# Altium integrated library CRCW0402453KFKED.IntLib: 1 symbol
Pins are listed as number, name and electrical type; pins without a type are passive.

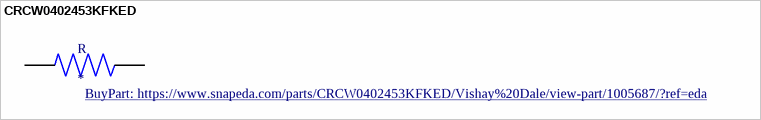
[diagram p0: symbol CRCW0402453KFKED]

## CRCW0402453KFKED
designator R
453 kOhms Â±1% 0.063W, 1/16W Chip Resistor 0402 (1005 Metric) Automotive AEC-Q200 Thick Film; MP: CRCW0402453KFKED; MF: Vishay Dale; Arrow_Electronics-Purchase-URL: https://snapeda.com/shop?store=Arrow+Electronics&id=1005687; Digi-Key_Part_Number: 541-453KLCT-ND; DigiKey-Purchase-URL: https://snapeda.com/shop?store=DigiKey&id=1005687; Package: 1005 Panasonic Electronic Components; SnapEDA_Link: https://www.snapeda.com/parts/CRCW0402453KFKED/Vishay%20Dale/view-part/1005687/?ref=snap; Value: *; Mouser-Purchase-URL: https://snapeda.com/shop?store=Mouser&id=1005687; BuyPart: https://www.snapeda.com/parts/CRCW0402453KFKED/Vishay%20Dale/view-part/1005687/?ref=eda
footprint RESC1005X40N
pins: 1, 2